# Altium footprint library PCB - LED - OSRAM SFH 4641.PCBLIB: 1 footprints
Each footprint in its own frame and in the unit in brackets; x right, y up, seen from the top. Pads: shape width x height; smd on the part's side, far side on the other; paste and mask are expansions set on the pad; w line width, h text height; cw(c..) or ccw(c..) is an arc to the next point about the centre after c.
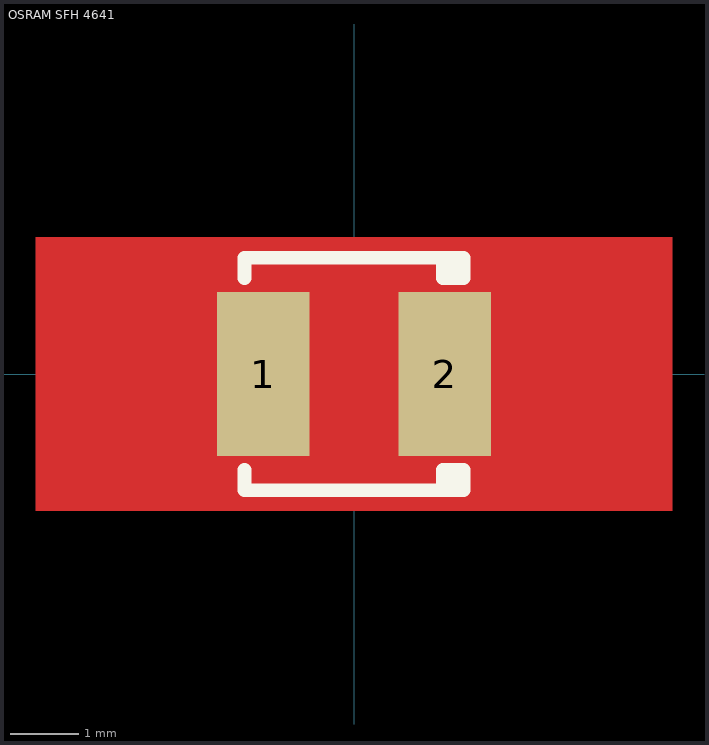
[diagram p0: the footprint, top view; thin cyan lines are the x and y axes]

## OSRAM SFH 4641 [mm] "2-SMD, 2-Leads, Body 3.3x2.35mm, IPC Medium Density"
height 1.7
pads (2):
  rect 1.35x2.4 smd paste-0.05 mask+0: 1(-1.325,0) 2(1.325,0)
Top Layer:
  region: 0.65,2 4.65,2 4.65,-2 0.65,-2
  region: -0.65,-2 -4.65,-2 -4.65,2 -0.65,2
  pour cut-out: 0.65,-2 0.65,2 -0.65,2 -0.65,-2
Top Overlay:
  region: 1.6,-1.4 1.3,-1.4 1.3,-1.7 1.6,-1.7
  region: 1.6,1.7 1.3,1.7 1.3,1.4 1.6,1.4
  lines w0.2: -1.6,-1.4 -1.6,-1.7 1.6,-1.7 ; -1.6,1.4 -1.6,1.7 1.6,1.7 ; 1.6,-1.7 1.3,-1.7 1.3,-1.4 1.6,-1.4 1.6,-1.7 ; 1.6,1.7 1.6,1.4 1.3,1.4 1.3,1.7 1.6,1.7
Mechanical 13:
  region: 1.65,1.2 1.3,1.2 1.3,-1.175 1.65,-1.175
  lines w0.1: -1.65,-1.175 -1.65,1.175 1.65,1.175 1.65,-1.175 -1.65,-1.175
Mechanical 15:
  lines w0.05: -2.2,-1.4 -2.2,1.4 2.2,1.4 2.2,-1.4 -2.2,-1.4
Mechanical 2 (Mech9):
  lines w0.2: -0.5,0 0.5,0 ; 0,-0.5 0,0.5
3D body "OSRAM - 2SMD 3.1 x 2.25mm.step": height 1.7, standoff 0, extent -1.55,-1.125 1.55,1.125